# Altium schematic symbol library ESB228.SchLib: 1 symbol
Pins are listed as number, name and electrical type; pins without a type are passive.

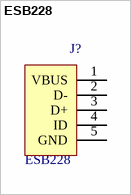
[diagram p0: symbol ESB228]

## ESB228
designator J?
Type: MicroUSB; Termination Method: Solder; Manufacturer: *; HelpURL: http://www.ges.cz/sheets/6/6615670.pdf; Model: ESB228
footprint EXB228
pins: 1 VBUS, 2 D-, 3 D+, 4 ID, 5 GND